# Altium schematic symbol library Conn,Nano-Fit,Pin,20-22AWG,Tin.Schlib: 1 symbol
Pins are listed as number, name and electrical type; pins without a type are passive.

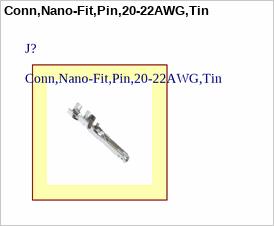
[diagram p0: symbol Conn,Nano-Fit,Pin,20-22AWG,Tin]

## Conn,Nano-Fit,Pin,20-22AWG,Tin
designator J?  (mechanical)
Non-Gendered Contact Tin 20-22 AWG Crimp Power